# EAGLE library part 68800911622 (library Wire-to-Board (rev18a))
WR-WTB 2.50mm "J"Type Vertical Male Shrouded Header, 9 Pins=>Code : WR-WTB_Stiftleiste_J_68800911622 <http://katalog.we-online.de/media/thumbs2/eican/thb_WR-WTB_Stiftleiste_J_68800116622.jpg> Details see: http://katalog.we-online.de/en/em/WTB_2_50_J_TYPE_VERTICAL_MALE_SHROUDED_HEADER_6880XX11622 Created 2014-06-05, Karrer Zheng 2014 (C) Würth Elektronik
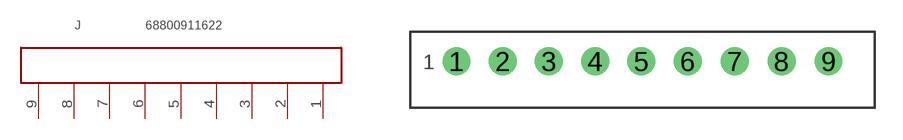
[diagram p16: symbol with the pads of 68800911622; footprint 68800911622]

Designator prefix J

## 68800911622  [68800911622]
1  1  pas
2  2  pas
3  3  pas
4  4  pas
5  5  pas
6  6  pas
7  7  pas
8  8  pas
9  9  pas

## Footprint 68800911622 (pad centres in mm)
WR-WTB 2.50mm "J" Type Vertical Male Shrouded Header, 9 Pins
drill 1: 1 -10.06,0; 2 -7.56,0; 3 -5.06,0; 4 -2.56,0; 5 -0.06,0; 6 2.44,0; 7 4.98,0; 8 7.52,0; 9 10.06,0